# Altium schematic symbol library ECG_EMG.SchLib: 6 symbols
Pins are listed as number, name and electrical type; pins without a type are passive.

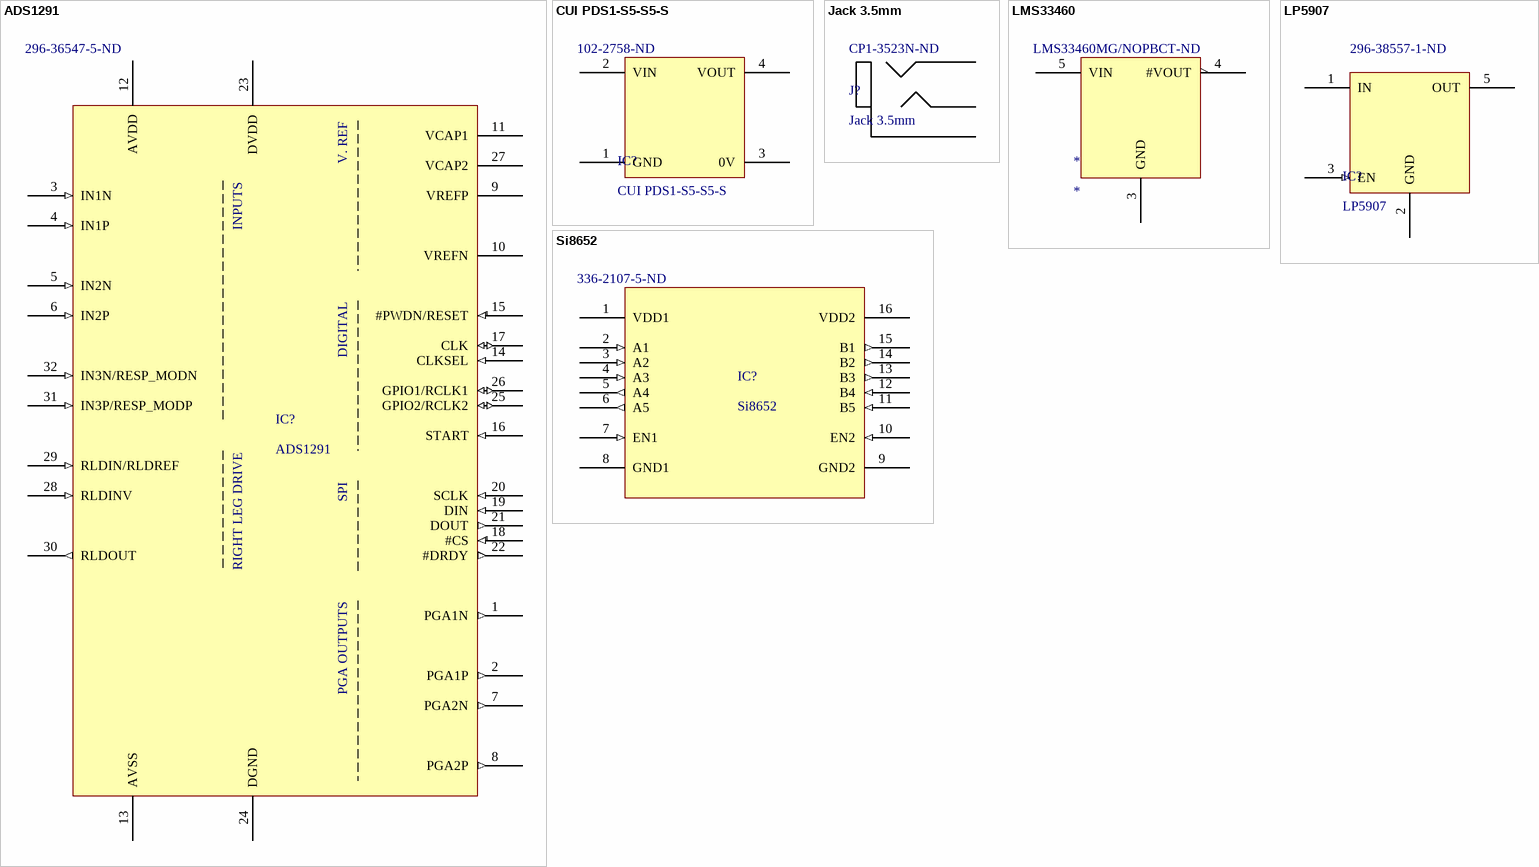
[diagram p0: symbols ADS1291 to Si8652]

## ADS1291
designator IC?  Supplier Part Number 1: 296-36547-5-ND
Supplier 1: Digi-Key
footprint TSQFP50P700X700X120-32N (TSQFP, 32-Leads, Body 5,00x5,00mm, Pitch 0,50mm, IPC Medium Density)
pins: 1 PGA1N (out), 2 PGA1P (out), 3 IN1N (in), 4 IN1P (in), 5 IN2N (in), 6 IN2P (in), 7 PGA2N (out), 8 PGA2P (out), 9 VREFP, 10 VREFN, 11 VCAP1, 12 AVDD (power), 13 AVSS (power), 14 CLKSEL (in), 15 #PWDN/RESET (in), 16 START (in), 17 CLK (io), 18 #CS (in), 19 DIN (in), 20 SCLK (in), 21 DOUT (out), 22 #DRDY (out), 23 DVDD (power), 24 DGND (power), 25 GPIO2/RCLK2 (io), 26 GPIO1/RCLK1 (io), 27 VCAP2, 28 RLDINV (in), 29 RLDIN/RLDREF (in), 30 RLDOUT (out), 31 IN3P/RESP_MODP (in), 32 IN3N/RESP_MODN (in)
text: V. REF; INPUTS; DIGITAL; RIGHT LEG DRIVE; SPI; PGA OUTPUTS

## CUI PDS1-S5-S5-S
designator IC?  Supplier Part Number 1: 102-2758-ND
Supplier 1: Digi-Key
footprint SIL4
pins: 1 GND (power), 2 VIN (power), 3 0V (power), 4 VOUT (power)

## Jack 3.5mm
designator J?  Supplier Part Number 1: CP1-3523N-ND
Supplier 1: Digi-Key
footprint Jack 3.5mm
pins: 1 Sleeve, 2 Tip, 3 Ring

## LMS33460
designator *  Supplier Part Number 1: LMS33460MG/NOPBCT-ND
Supplier 1: Digi-Key
footprint SOT65P210X110-5N (SOT23, 5-Leads, Body 2,00x2,10mm, Pitch 0,65mm, IPC Medium Density)
pins: 3 GND (power), 4 #VOUT (oc), 5 VIN (power)

## LP5907
designator IC?  Supplier Part Number 1: 296-38557-1-ND
Supplier 1: Digi-Key
footprint SOT95P280X145-5N (SOT23, 5-Leads, Body 2,90x2,80mm, Pitch 0,95mm, IPC Medium Density)
pins: 1 IN (power), 2 GND (power), 3 EN (in), 5 OUT (power)

## Si8652
designator IC?  Supplier Part Number 1: 336-2107-5-ND
Supplier 1: Digi-Key
footprint SOIC127P600X175-16N (SOIC, 16-Leads, Body 9,90x3,90mm, Pitch 1,27mm, IPC Medium Density)
pins: 1 VDD1 (power), 2 A1 (in), 3 A2 (in), 4 A3 (in), 5 A4 (out), 6 A5 (out), 7 EN1 (in), 8 GND1 (power), 9 GND2 (power), 10 EN2 (in), 11 B5 (in), 12 B4 (in), 13 B3 (out), 14 B2 (out), 15 B1 (out), 16 VDD2 (power)